# Altium schematic symbol library Infineon.SchLib: 1 symbol
Pins are listed as number, name and electrical type; pins without a type are passive.

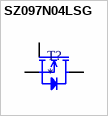
[diagram p0: symbol SZ097N04LSG]

## SZ097N04LSG
designator T?
Fast switching MOSFET for SMPS
footprint PG-TSDSON-8
pins: 1, 2, 3 S, 4 G, 5, 6, 7, 8, 9 D